# EAGLE library part S2G9_JUMP (library #PaJa_konektory)
Radove konektory - koliky - dvojite - 2x9
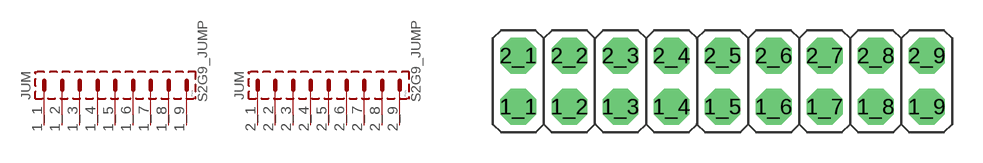
[diagram p32: symbol with the pads of S2G9_JUM; footprint S2G9_JUM]

Designator prefix JUM; gates 1=S1G9 2=S1G9

## S2G9_JUMP  [S2G9_JUM]
1_1  1:1  pas
1_2  1:2  pas
1_3  1:3  pas
1_4  1:4  pas
1_5  1:5  pas
1_6  1:6  pas
1_7  1:7  pas
1_8  1:8  pas
1_9  1:9  pas
2_1  2:1  pas
2_2  2:2  pas
2_3  2:3  pas
2_4  2:4  pas
2_5  2:5  pas
2_6  2:6  pas
2_7  2:7  pas
2_8  2:8  pas
2_9  2:9  pas

## Footprint S2G9_JUM (pad centres in mm)
drill 0.813 pad 1.778 octagon: 1_1 -10.16,-1.27; 1_2 -7.62,-1.27; 1_3 -5.08,-1.27; 1_4 -2.54,-1.27; 1_5 0,-1.27; 1_6 2.54,-1.27; 1_7 5.08,-1.27; 1_8 7.62,-1.27; 1_9 10.16,-1.27; 2_1 -10.16,1.27; 2_2 -7.62,1.27; 2_3 -5.08,1.27; 2_4 -2.54,1.27; 2_5 0,1.27; 2_6 2.54,1.27; 2_7 5.08,1.27; 2_8 7.62,1.27; 2_9 10.16,1.27